# EAGLE library part ZIF-84952-10 (library JLB6_Connec)
Connecteur ZIF 1.0mm 10 pts Tyco contacts bottom
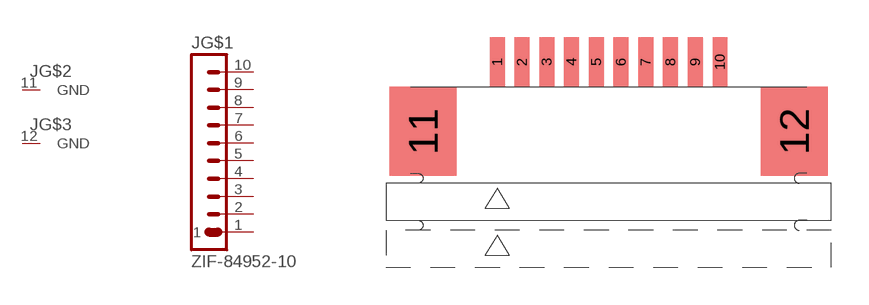
[diagram p47: symbol with the pads of ZIF-10-TYCO; footprint ZIF-10-TYCO]

Designator prefix J; gates G$1=1X10 G$2=GND G$3=GND

## ZIF-84952-10  [ZIF-10-TYCO]
1  G$1:1  pas
2  G$1:2  pas
3  G$1:3  pas
4  G$1:4  pas
5  G$1:5  pas
6  G$1:6  pas
7  G$1:7  pas
8  G$1:8  pas
9  G$1:9  pas
10  G$1:10  pas
11  G$2:GND  pwr
12  G$3:GND  pwr

## Footprint ZIF-10-TYCO (pad centres in mm)
smd 0.6 x 2: 1 -4.5,0; 2 -3.5,0; 3 -2.5,0; 4 -1.5,0; 5 -0.5,0; 6 0.5,0; 7 1.5,0; 8 2.5,0; 9 3.5,0; 10 4.5,0
smd 2.7 x 3.6: 11 -7.5,-2.8; 12 7.5,-2.8